# Altium integrated library BB Converter Analog to Digital.IntLib: 242 symbols (part 3 of 6)
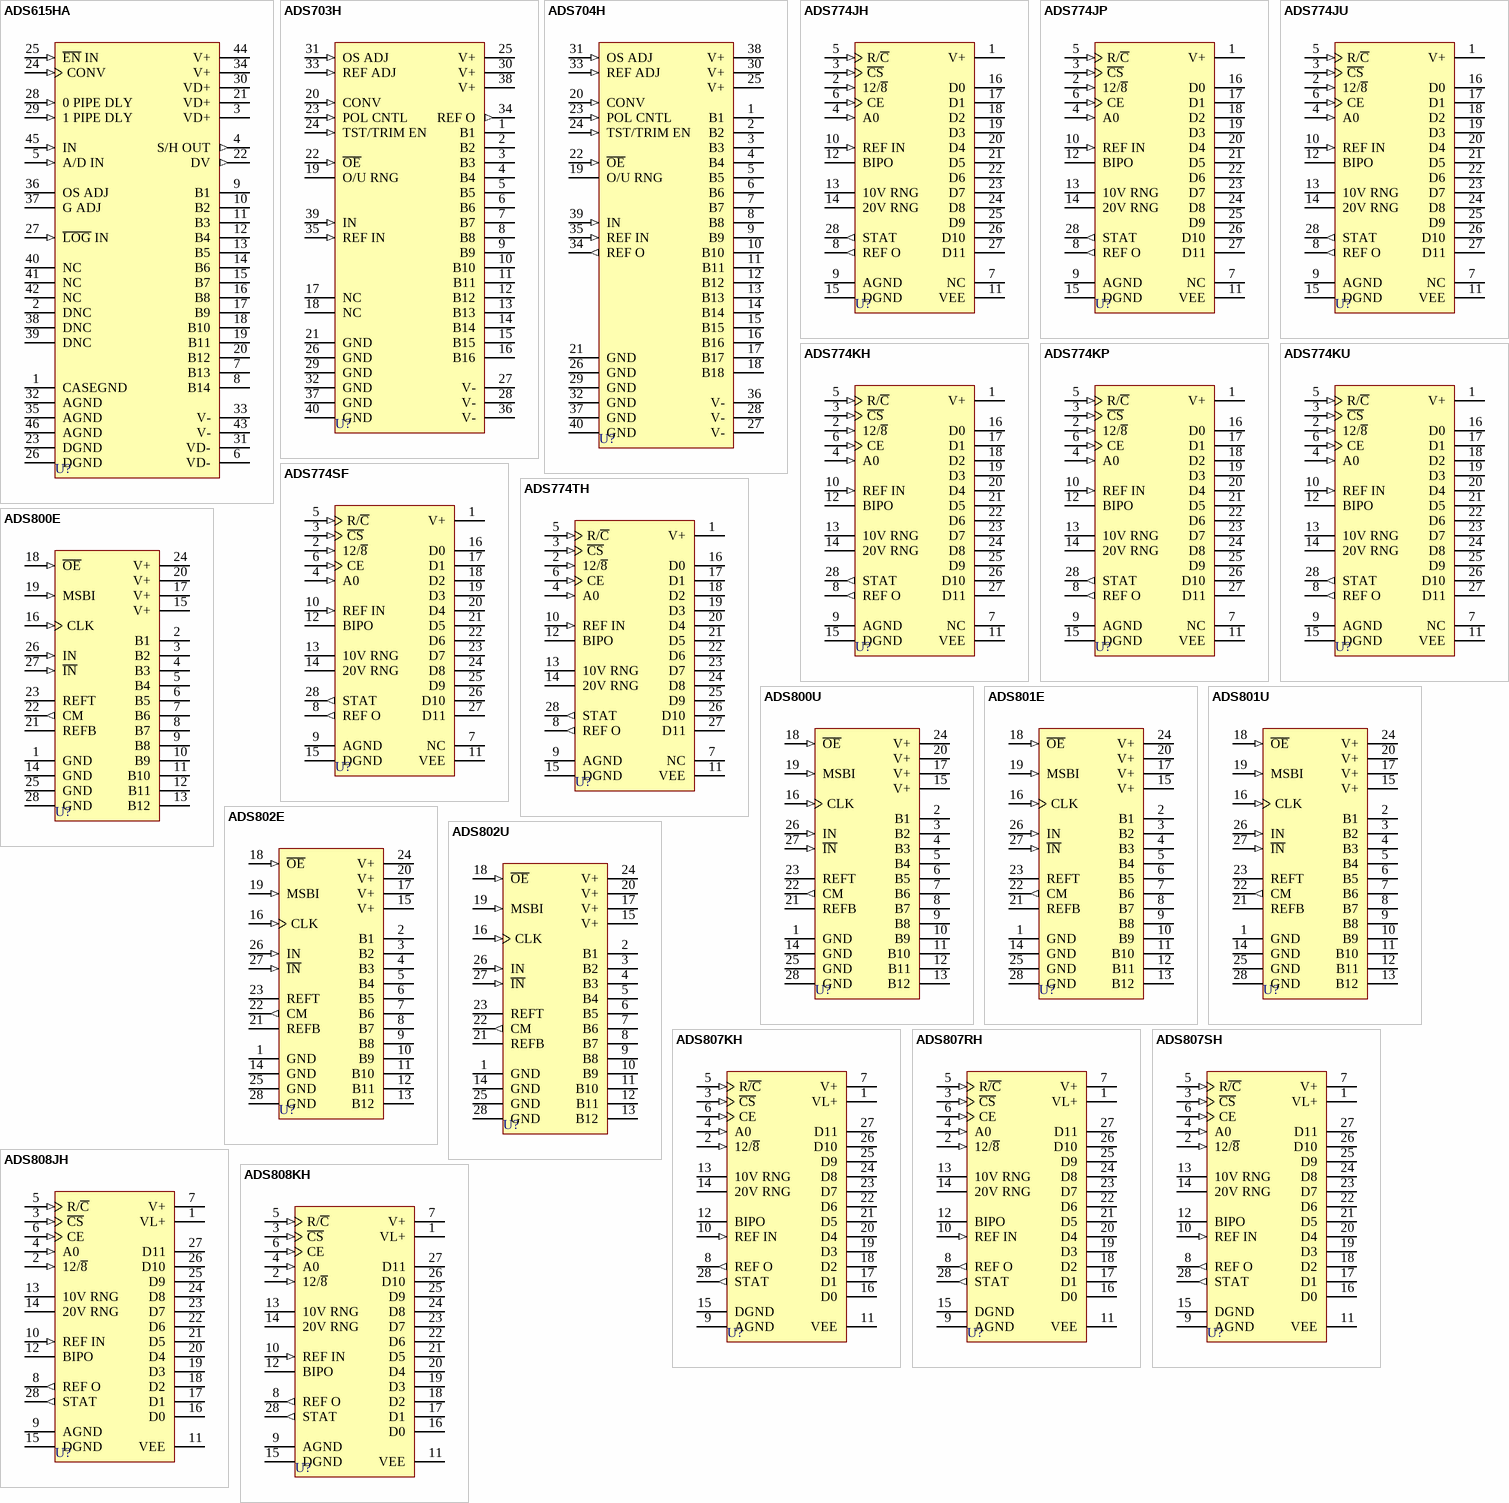
[diagram p11: symbols ADS615HA to ADS808KH]

## ADS774KH
designator U?
Microprocessor-Compatible Sampling CMOS Analog-to-Digital Converter; Note: Pin 7 is No internal Connection (NC) pin; Published: 8-Jun-2000; LatestRevisionDate: 06-Jun-2005; LatestRevisionNote: Stylized 3D Model Added.; DatasheetVersion: 1994; PackageVersion: 1994; PackageReference: 149; Publisher: Altium Limited; PackageDescription: DIP; 28 Leads; Row Spacing 15.24 mm; Pitch 2.54 mm; ComponentLink1Description: Manufacturer Link; ComponentLink1URL: http://www.ti.com/; ComponentLink2Description: Datasheet; ComponentLink2URL: http://www-s.ti.com/sc/ds/ads774.pdf
footprint 149 (DIP; 28 Leads; Row Spacing 15.24 mm; Pitch 2.54 mm)
3D model 149 (DIP; 28 Leads; Row Spacing 15.24 mm; Pitch 2.54 mm)
pins: 1 V+ (power), 2 12/~{8} (in), 3 ~{CS} (in), 4 A0 (in), 5 R/~{C} (in), 6 CE (in), 7 NC, 8 REF O (out), 9 AGND (power), 10 REF IN (in), 11 VEE (power), 12 BIPO, 13 10V RNG, 14 20V RNG, 15 DGND (power), 16 D0 (hiz), 17 D1 (hiz), 18 D2 (hiz), 19 D3 (hiz), 20 D4 (hiz), 21 D5 (hiz), 22 D6 (hiz), 23 D7 (hiz), 24 D8 (hiz), 25 D9 (hiz), 26 D10 (hiz), 27 D11 (hiz), 28 STAT (out)

## ADS774KP
designator U?
Microprocessor-Compatible Sampling CMOS Analog-to-Digital Converter; Note: Pin 7 is No internal Connection (NC) pin; Published: 8-Jun-2000; LatestRevisionDate: 06-Jun-2005; LatestRevisionNote: Stylized 3D Model Added.; DatasheetVersion: 1994; PackageVersion: revJ; PackageReference: 215J; Publisher: Altium Limited; PackageDescription: DIP; 28 Leads; Row Spacing 15.24 mm; Pitch 2.54 mm; Code_JEDEC: MS-011-AB; ComponentLink1Description: Manufacturer Link; ComponentLink1URL: http://www.ti.com/; ComponentLink2Description: Datasheet; ComponentLink2URL: http://www-s.ti.com/sc/ds/ads774.pdf
footprint 215J (DIP; 28 Leads; Row Spacing 15.24 mm; Pitch 2.54 mm)
3D model 215J (DIP; 28 Leads; Row Spacing 15.24 mm; Pitch 2.54 mm)
pins: 1 V+ (power), 2 12/~{8} (in), 3 ~{CS} (in), 4 A0 (in), 5 R/~{C} (in), 6 CE (in), 7 NC, 8 REF O (out), 9 AGND (power), 10 REF IN (in), 11 VEE (power), 12 BIPO, 13 10V RNG, 14 20V RNG, 15 DGND (power), 16 D0 (hiz), 17 D1 (hiz), 18 D2 (hiz), 19 D3 (hiz), 20 D4 (hiz), 21 D5 (hiz), 22 D6 (hiz), 23 D7 (hiz), 24 D8 (hiz), 25 D9 (hiz), 26 D10 (hiz), 27 D11 (hiz), 28 STAT (out)

## ADS774KU
designator U?
Microprocessor-Compatible Sampling CMOS Analog-to-Digital Converter; Note: Pin 7 is No internal Connection (NC) pin; Published: 8-Jun-2000; LatestRevisionDate: 13-Apr-2006; LatestRevisionNote: IPC-7351 Footprint Added.; DatasheetVersion: 1994; PackageReference: 217G; Publisher: Altium Limited; PackageDescription: 28-Pin Small Outline Integrated Circuit 1.27 mm Pitch; ComponentLink1Description: Manufacturer Link; ComponentLink1URL: http://www.ti.com/; ComponentLink2Description: Datasheet; ComponentLink2URL: http://www-s.ti.com/sc/ds/ads774.pdf
footprint 217G_N (SOIC, 28-Leads, Body 17.9x7.5mm, Pitch 1.27mm, IPC Medium Density)
footprint 217G_L (SOIC, 28-Leads, Body 17.9x7.5mm, Pitch 1.27mm, IPC High Density)
footprint 217G_M (SOIC, 28-Leads, Body 17.9x7.5mm, Pitch 1.27mm, IPC Low Density)
3D model 217G (28-Pin Small Outline Integrated Circuit 1.27 mm Pitch)
pins: 1 V+ (power), 2 12/~{8} (in), 3 ~{CS} (in), 4 A0 (in), 5 R/~{C} (in), 6 CE (in), 7 NC, 8 REF O (out), 9 AGND (power), 10 REF IN (in), 11 VEE (power), 12 BIPO, 13 10V RNG, 14 20V RNG, 15 DGND (power), 16 D0 (hiz), 17 D1 (hiz), 18 D2 (hiz), 19 D3 (hiz), 20 D4 (hiz), 21 D5 (hiz), 22 D6 (hiz), 23 D7 (hiz), 24 D8 (hiz), 25 D9 (hiz), 26 D10 (hiz), 27 D11 (hiz), 28 STAT (out)

## ADS774SF
designator U?
Microprocessor-Compatible Sampling CMOS Analog-to-Digital Converter; Note: Pin 7 is No internal Connection (NC) pin; Published: 8-Jun-2000; LatestRevisionDate: 06-Jun-2005; LatestRevisionNote: Stylized 3D Model Added.; DatasheetVersion: 1994; PackageVersion: 1994; PackageReference: 247; Publisher: Altium Limited; PackageDescription: DIP; 28 Leads; Row Spacing 7.62 mm; Pitch 2.54 mm; ComponentLink1Description: Manufacturer Link; ComponentLink1URL: http://www.ti.com/; ComponentLink2Description: Datasheet; ComponentLink2URL: http://www-s.ti.com/sc/ds/ads774.pdf
footprint 247 (DIP; 28 Leads; Row Spacing 7.62 mm; Pitch 2.54 mm)
3D model 246D (DIP; 28 Leads; Row Spacing 7.62 mm; Pitch 2.54 mm)
pins: 1 V+ (power), 2 12/~{8} (in), 3 ~{CS} (in), 4 A0 (in), 5 R/~{C} (in), 6 CE (in), 7 NC, 8 REF O (out), 9 AGND (power), 10 REF IN (in), 11 VEE (power), 12 BIPO, 13 10V RNG, 14 20V RNG, 15 DGND (power), 16 D0 (hiz), 17 D1 (hiz), 18 D2 (hiz), 19 D3 (hiz), 20 D4 (hiz), 21 D5 (hiz), 22 D6 (hiz), 23 D7 (hiz), 24 D8 (hiz), 25 D9 (hiz), 26 D10 (hiz), 27 D11 (hiz), 28 STAT (out)

## ADS774TH
designator U?
Microprocessor-Compatible Sampling CMOS Analog-to-Digital Converter; Note: Pin 7 is No internal Connection (NC) pin; Published: 8-Jun-2000; LatestRevisionDate: 06-Jun-2005; LatestRevisionNote: Stylized 3D Model Added.; DatasheetVersion: 1994; PackageVersion: 1994; PackageReference: 149; Publisher: Altium Limited; PackageDescription: DIP; 28 Leads; Row Spacing 15.24 mm; Pitch 2.54 mm; ComponentLink1Description: Manufacturer Link; ComponentLink1URL: http://www.ti.com/; ComponentLink2Description: Datasheet; ComponentLink2URL: http://www-s.ti.com/sc/ds/ads774.pdf
footprint 149 (DIP; 28 Leads; Row Spacing 15.24 mm; Pitch 2.54 mm)
3D model 149 (DIP; 28 Leads; Row Spacing 15.24 mm; Pitch 2.54 mm)
pins: 1 V+ (power), 2 12/~{8} (in), 3 ~{CS} (in), 4 A0 (in), 5 R/~{C} (in), 6 CE (in), 7 NC, 8 REF O (out), 9 AGND (power), 10 REF IN (in), 11 VEE (power), 12 BIPO, 13 10V RNG, 14 20V RNG, 15 DGND (power), 16 D0 (hiz), 17 D1 (hiz), 18 D2 (hiz), 19 D3 (hiz), 20 D4 (hiz), 21 D5 (hiz), 22 D6 (hiz), 23 D7 (hiz), 24 D8 (hiz), 25 D9 (hiz), 26 D10 (hiz), 27 D11 (hiz), 28 STAT (out)

## ADS800E
designator U?
12-Bit, 40MHz Sampling Analog-to-Digital Converter; Published: 8-Jun-2000; LatestRevisionDate: 06-Jun-2005; LatestRevisionNote: Stylized 3D Model Added.; DatasheetVersion: Nov-1996; PackageReference: 324C; Publisher: Altium Limited; PackageDescription: SSOP, Plastic; 28 Leads; Body Width 5.3 mm; Pitch 0.65 mm; Code_JEDEC: MO-150-AH; ComponentLink1Description: Manufacturer Link; ComponentLink1URL: http://www.ti.com/; ComponentLink2Description: Datasheet; ComponentLink2URL: http://www-s.ti.com/sc/ds/ADS800.pdf
footprint 324C (SSOP, Plastic; 28 Leads; Body Width 5.3 mm; Pitch 0.65 mm)
3D model SSOP28 (SSOP, Plastic; 28 Leads; Body Width 5.3 mm; Pitch 0.65 mm)
pins: 1 GND (power), 2 B1 (hiz), 3 B2 (hiz), 4 B3 (hiz), 5 B4 (hiz), 6 B5 (hiz), 7 B6 (hiz), 8 B7 (hiz), 9 B8 (hiz), 10 B9 (hiz), 11 B10 (hiz), 12 B11 (hiz), 13 B12 (hiz), 14 GND (power), 15 V+ (power), 16 CLK (in), 17 V+ (power), 18 ~{OE} (in), 19 MSBI (in), 20 V+ (power), 21 REFB, 22 CM (out), 23 REFT, 24 V+ (power), 25 GND (power), 26 IN (in), 27 ~{IN} (in), 28 GND (power)

## ADS800U
designator U?
12-Bit, 40MHz Sampling Analog-to-Digital Converter; Published: 8-Jun-2000; LatestRevisionDate: 13-Apr-2006; LatestRevisionNote: IPC-7351 Footprint Added.; DatasheetVersion: Nov-1996; PackageReference: 217G; Publisher: Altium Limited; PackageDescription: 28-Pin Small Outline Integrated Circuit 1.27 mm Pitch; ComponentLink1Description: Manufacturer Link; ComponentLink1URL: http://www.ti.com/; ComponentLink2Description: Datasheet; ComponentLink2URL: http://www-s.ti.com/sc/ds/ADS800.pdf
footprint 217G_N (SOIC, 28-Leads, Body 17.9x7.5mm, Pitch 1.27mm, IPC Medium Density)
footprint 217G_L (SOIC, 28-Leads, Body 17.9x7.5mm, Pitch 1.27mm, IPC High Density)
footprint 217G_M (SOIC, 28-Leads, Body 17.9x7.5mm, Pitch 1.27mm, IPC Low Density)
3D model 217G (28-Pin Small Outline Integrated Circuit 1.27 mm Pitch)
pins: 1 GND (power), 2 B1 (hiz), 3 B2 (hiz), 4 B3 (hiz), 5 B4 (hiz), 6 B5 (hiz), 7 B6 (hiz), 8 B7 (hiz), 9 B8 (hiz), 10 B9 (hiz), 11 B10 (hiz), 12 B11 (hiz), 13 B12 (hiz), 14 GND (power), 15 V+ (power), 16 CLK (in), 17 V+ (power), 18 ~{OE} (in), 19 MSBI (in), 20 V+ (power), 21 REFB, 22 CM (out), 23 REFT, 24 V+ (power), 25 GND (power), 26 IN (in), 27 ~{IN} (in), 28 GND (power)

## ADS801E
designator U?
12-Bit, 25MHz Sampling Analog-to-Digital Converter; Published: 8-Jun-2000; LatestRevisionDate: 06-Jun-2005; LatestRevisionNote: Stylized 3D Model Added.; DatasheetVersion: Sep-1996; PackageReference: 324C; Publisher: Altium Limited; PackageDescription: SSOP, Plastic; 28 Leads; Body Width 5.3 mm; Pitch 0.65 mm; Code_JEDEC: MO-150-AH; ComponentLink1Description: Manufacturer Link; ComponentLink1URL: http://www.ti.com/; ComponentLink2Description: Datasheet; ComponentLink2URL: http://www-s.ti.com/sc/ds/ADS801.pdf
footprint 324C (SSOP, Plastic; 28 Leads; Body Width 5.3 mm; Pitch 0.65 mm)
3D model SSOP28 (SSOP, Plastic; 28 Leads; Body Width 5.3 mm; Pitch 0.65 mm)
pins: 1 GND (power), 2 B1 (hiz), 3 B2 (hiz), 4 B3 (hiz), 5 B4 (hiz), 6 B5 (hiz), 7 B6 (hiz), 8 B7 (hiz), 9 B8 (hiz), 10 B9 (hiz), 11 B10 (hiz), 12 B11 (hiz), 13 B12 (hiz), 14 GND (power), 15 V+ (power), 16 CLK (in), 17 V+ (power), 18 ~{OE} (in), 19 MSBI (in), 20 V+ (power), 21 REFB, 22 CM (out), 23 REFT, 24 V+ (power), 25 GND (power), 26 IN (in), 27 ~{IN} (in), 28 GND (power)

## ADS801U
designator U?
12-Bit, 25MHz Sampling Analog-to-Digital Converter; Published: 8-Jun-2000; LatestRevisionDate: 13-Apr-2006; LatestRevisionNote: IPC-7351 Footprint Added.; DatasheetVersion: Sep-1996; PackageReference: 217G; Publisher: Altium Limited; PackageDescription: 28-Pin Small Outline Integrated Circuit 1.27 mm Pitch; ComponentLink1Description: Manufacturer Link; ComponentLink1URL: http://www.ti.com/; ComponentLink2Description: Datasheet; ComponentLink2URL: http://www-s.ti.com/sc/ds/ADS801.pdf
footprint 217G_N (SOIC, 28-Leads, Body 17.9x7.5mm, Pitch 1.27mm, IPC Medium Density)
footprint 217G_L (SOIC, 28-Leads, Body 17.9x7.5mm, Pitch 1.27mm, IPC High Density)
footprint 217G_M (SOIC, 28-Leads, Body 17.9x7.5mm, Pitch 1.27mm, IPC Low Density)
3D model 217G (28-Pin Small Outline Integrated Circuit 1.27 mm Pitch)
pins: 1 GND (power), 2 B1 (hiz), 3 B2 (hiz), 4 B3 (hiz), 5 B4 (hiz), 6 B5 (hiz), 7 B6 (hiz), 8 B7 (hiz), 9 B8 (hiz), 10 B9 (hiz), 11 B10 (hiz), 12 B11 (hiz), 13 B12 (hiz), 14 GND (power), 15 V+ (power), 16 CLK (in), 17 V+ (power), 18 ~{OE} (in), 19 MSBI (in), 20 V+ (power), 21 REFB, 22 CM (out), 23 REFT, 24 V+ (power), 25 GND (power), 26 IN (in), 27 ~{IN} (in), 28 GND (power)

## ADS802E
designator U?
12-Bit, 10MHz Sampling Analog-to-Digital Converter; Published: 8-Jun-2000; LatestRevisionDate: 06-Jun-2005; LatestRevisionNote: Stylized 3D Model Added.; DatasheetVersion: Oct-1996; PackageReference: 324C; Publisher: Altium Limited; PackageDescription: SSOP, Plastic; 28 Leads; Body Width 5.3 mm; Pitch 0.65 mm; Code_JEDEC: MO-150-AH; ComponentLink1Description: Manufacturer Link; ComponentLink1URL: http://www.ti.com/; ComponentLink2Description: Datasheet; ComponentLink2URL: http://www-s.ti.com/sc/ds/ADS802.pdf
footprint 324C (SSOP, Plastic; 28 Leads; Body Width 5.3 mm; Pitch 0.65 mm)
3D model SSOP28 (SSOP, Plastic; 28 Leads; Body Width 5.3 mm; Pitch 0.65 mm)
pins: 1 GND (power), 2 B1 (hiz), 3 B2 (hiz), 4 B3 (hiz), 5 B4 (hiz), 6 B5 (hiz), 7 B6 (hiz), 8 B7 (hiz), 9 B8 (hiz), 10 B9 (hiz), 11 B10 (hiz), 12 B11 (hiz), 13 B12 (hiz), 14 GND (power), 15 V+ (power), 16 CLK (in), 17 V+ (power), 18 ~{OE} (in), 19 MSBI (in), 20 V+ (power), 21 REFB, 22 CM (out), 23 REFT, 24 V+ (power), 25 GND (power), 26 IN (in), 27 ~{IN} (in), 28 GND (power)

## ADS802U
designator U?
12-Bit, 10MHz Sampling Analog-to-Digital Converter; Published: 8-Jun-2000; LatestRevisionDate: 13-Apr-2006; LatestRevisionNote: IPC-7351 Footprint Added.; DatasheetVersion: Oct-1996; PackageReference: 217G; Publisher: Altium Limited; PackageDescription: 28-Pin Small Outline Integrated Circuit 1.27 mm Pitch; ComponentLink1Description: Manufacturer Link; ComponentLink1URL: http://www.ti.com/; ComponentLink2Description: Datasheet; ComponentLink2URL: http://www-s.ti.com/sc/ds/ADS802.pdf
footprint 217G_N (SOIC, 28-Leads, Body 17.9x7.5mm, Pitch 1.27mm, IPC Medium Density)
footprint 217G_L (SOIC, 28-Leads, Body 17.9x7.5mm, Pitch 1.27mm, IPC High Density)
footprint 217G_M (SOIC, 28-Leads, Body 17.9x7.5mm, Pitch 1.27mm, IPC Low Density)
3D model 217G (28-Pin Small Outline Integrated Circuit 1.27 mm Pitch)
pins: 1 GND (power), 2 B1 (hiz), 3 B2 (hiz), 4 B3 (hiz), 5 B4 (hiz), 6 B5 (hiz), 7 B6 (hiz), 8 B7 (hiz), 9 B8 (hiz), 10 B9 (hiz), 11 B10 (hiz), 12 B11 (hiz), 13 B12 (hiz), 14 GND (power), 15 V+ (power), 16 CLK (in), 17 V+ (power), 18 ~{OE} (in), 19 MSBI (in), 20 V+ (power), 21 REFB, 22 CM (out), 23 REFT, 24 V+ (power), 25 GND (power), 26 IN (in), 27 ~{IN} (in), 28 GND (power)

## ADS807KH
designator U?
12-Bit Resolution Sampling A/D Converter; Published: 8-Jun-2000; LatestRevisionDate: 06-Jun-2005; LatestRevisionNote: Stylized 3D Model Added.; DatasheetVersion: 1989; PackageVersion: 1994; PackageReference: 237; Publisher: Altium Limited; PackageDescription: DIP; 28 Leads; Row Spacing 15.24 mm; Pitch 2.54 mm; ComponentLink1Description: Manufacturer Link; ComponentLink1URL: http://www.ti.com/; ComponentLink2Description: Datasheet; ComponentLink2URL: http://www-s.ti.com/sc/ds/ads807.pdf
footprint 237 (DIP; 28 Leads; Row Spacing 15.24 mm; Pitch 2.54 mm)
3D model 144 (DIP; 28 Leads; Row Spacing 15.24 mm; Pitch 2.54 mm)
pins: 1 VL+ (power), 2 12/~{8} (in), 3 ~{CS} (in), 4 A0 (in), 5 R~{/C} (in), 6 CE (in), 7 V+ (power), 8 REF O (out), 9 AGND (power), 10 REF IN (in), 11 VEE (power), 12 BIPO, 13 10V RNG, 14 20V RNG, 15 DGND (power), 16 D0 (hiz), 17 D1 (hiz), 18 D2 (hiz), 19 D3 (hiz), 20 D4 (hiz), 21 D5 (hiz), 22 D6 (hiz), 23 D7 (hiz), 24 D8 (hiz), 25 D9 (hiz), 26 D10 (hiz), 27 D11 (hiz), 28 STAT (out)

## ADS807RH
designator U?
12-Bit Resolution Sampling A/D Converter; Published: 8-Jun-2000; LatestRevisionDate: 06-Jun-2005; LatestRevisionNote: Stylized 3D Model Added.; DatasheetVersion: 1989; PackageVersion: 1994; PackageReference: 237; Publisher: Altium Limited; PackageDescription: DIP; 28 Leads; Row Spacing 15.24 mm; Pitch 2.54 mm; ComponentLink1Description: Manufacturer Link; ComponentLink1URL: http://www.ti.com/; ComponentLink2Description: Datasheet; ComponentLink2URL: http://www-s.ti.com/sc/ds/ads807.pdf
footprint 237 (DIP; 28 Leads; Row Spacing 15.24 mm; Pitch 2.54 mm)
3D model 144 (DIP; 28 Leads; Row Spacing 15.24 mm; Pitch 2.54 mm)
pins: 1 VL+ (power), 2 12/~{8} (in), 3 ~{CS} (in), 4 A0 (in), 5 R~{/C} (in), 6 CE (in), 7 V+ (power), 8 REF O (out), 9 AGND (power), 10 REF IN (in), 11 VEE (power), 12 BIPO, 13 10V RNG, 14 20V RNG, 15 DGND (power), 16 D0 (hiz), 17 D1 (hiz), 18 D2 (hiz), 19 D3 (hiz), 20 D4 (hiz), 21 D5 (hiz), 22 D6 (hiz), 23 D7 (hiz), 24 D8 (hiz), 25 D9 (hiz), 26 D10 (hiz), 27 D11 (hiz), 28 STAT (out)

## ADS807SH
designator U?
12-Bit Resolution Sampling A/D Converter; Published: 8-Jun-2000; LatestRevisionDate: 06-Jun-2005; LatestRevisionNote: Stylized 3D Model Added.; DatasheetVersion: 1989; PackageVersion: 1994; PackageReference: 237; Publisher: Altium Limited; PackageDescription: DIP; 28 Leads; Row Spacing 15.24 mm; Pitch 2.54 mm; ComponentLink1Description: Manufacturer Link; ComponentLink1URL: http://www.ti.com/; ComponentLink2Description: Datasheet; ComponentLink2URL: http://www-s.ti.com/sc/ds/ads807.pdf
footprint 237 (DIP; 28 Leads; Row Spacing 15.24 mm; Pitch 2.54 mm)
3D model 144 (DIP; 28 Leads; Row Spacing 15.24 mm; Pitch 2.54 mm)
pins: 1 VL+ (power), 2 12/~{8} (in), 3 ~{CS} (in), 4 A0 (in), 5 R~{/C} (in), 6 CE (in), 7 V+ (power), 8 REF O (out), 9 AGND (power), 10 REF IN (in), 11 VEE (power), 12 BIPO, 13 10V RNG, 14 20V RNG, 15 DGND (power), 16 D0 (hiz), 17 D1 (hiz), 18 D2 (hiz), 19 D3 (hiz), 20 D4 (hiz), 21 D5 (hiz), 22 D6 (hiz), 23 D7 (hiz), 24 D8 (hiz), 25 D9 (hiz), 26 D10 (hiz), 27 D11 (hiz), 28 STAT (out)

## ADS808JH
designator U?
12-Bit Resolution Sampling A/D Converter; Published: 8-Jun-2000; LatestRevisionDate: 06-Jun-2005; LatestRevisionNote: Stylized 3D Model Added.; DatasheetVersion: 1989; PackageVersion: 1994; PackageReference: 237; Publisher: Altium Limited; PackageDescription: DIP; 28 Leads; Row Spacing 15.24 mm; Pitch 2.54 mm; ComponentLink1Description: Manufacturer Link; ComponentLink1URL: http://www.ti.com/; ComponentLink2Description: Datasheet; ComponentLink2URL: http://www-s.ti.com/sc/ds/ads808.pdf
footprint 237 (DIP; 28 Leads; Row Spacing 15.24 mm; Pitch 2.54 mm)
3D model 144 (DIP; 28 Leads; Row Spacing 15.24 mm; Pitch 2.54 mm)
pins: 1 VL+ (power), 2 12/~{8} (in), 3 ~{CS} (in), 4 A0 (in), 5 R/~{C} (in), 6 CE (in), 7 V+ (power), 8 REF O (out), 9 AGND (power), 10 REF IN (in), 11 VEE (power), 12 BIPO, 13 10V RNG, 14 20V RNG, 15 DGND (power), 16 D0 (hiz), 17 D1 (hiz), 18 D2 (hiz), 19 D3 (hiz), 20 D4 (hiz), 21 D5 (hiz), 22 D6 (hiz), 23 D7 (hiz), 24 D8 (hiz), 25 D9 (hiz), 26 D10 (hiz), 27 D11 (hiz), 28 STAT (out)

## ADS808KH
designator U?
12-Bit Resolution Sampling A/D Converter; Published: 8-Jun-2000; LatestRevisionDate: 06-Jun-2005; LatestRevisionNote: Stylized 3D Model Added.; DatasheetVersion: 1989; PackageVersion: 1994; PackageReference: 237; Publisher: Altium Limited; PackageDescription: DIP; 28 Leads; Row Spacing 15.24 mm; Pitch 2.54 mm; ComponentLink1Description: Manufacturer Link; ComponentLink1URL: http://www.ti.com/; ComponentLink2Description: Datasheet; ComponentLink2URL: http://www-s.ti.com/sc/ds/ads808.pdf
footprint 237 (DIP; 28 Leads; Row Spacing 15.24 mm; Pitch 2.54 mm)
3D model 144 (DIP; 28 Leads; Row Spacing 15.24 mm; Pitch 2.54 mm)
pins: 1 VL+ (power), 2 12/~{8} (in), 3 ~{CS} (in), 4 A0 (in), 5 R/~{C} (in), 6 CE (in), 7 V+ (power), 8 REF O (out), 9 AGND (power), 10 REF IN (in), 11 VEE (power), 12 BIPO, 13 10V RNG, 14 20V RNG, 15 DGND (power), 16 D0 (hiz), 17 D1 (hiz), 18 D2 (hiz), 19 D3 (hiz), 20 D4 (hiz), 21 D5 (hiz), 22 D6 (hiz), 23 D7 (hiz), 24 D8 (hiz), 25 D9 (hiz), 26 D10 (hiz), 27 D11 (hiz), 28 STAT (out)

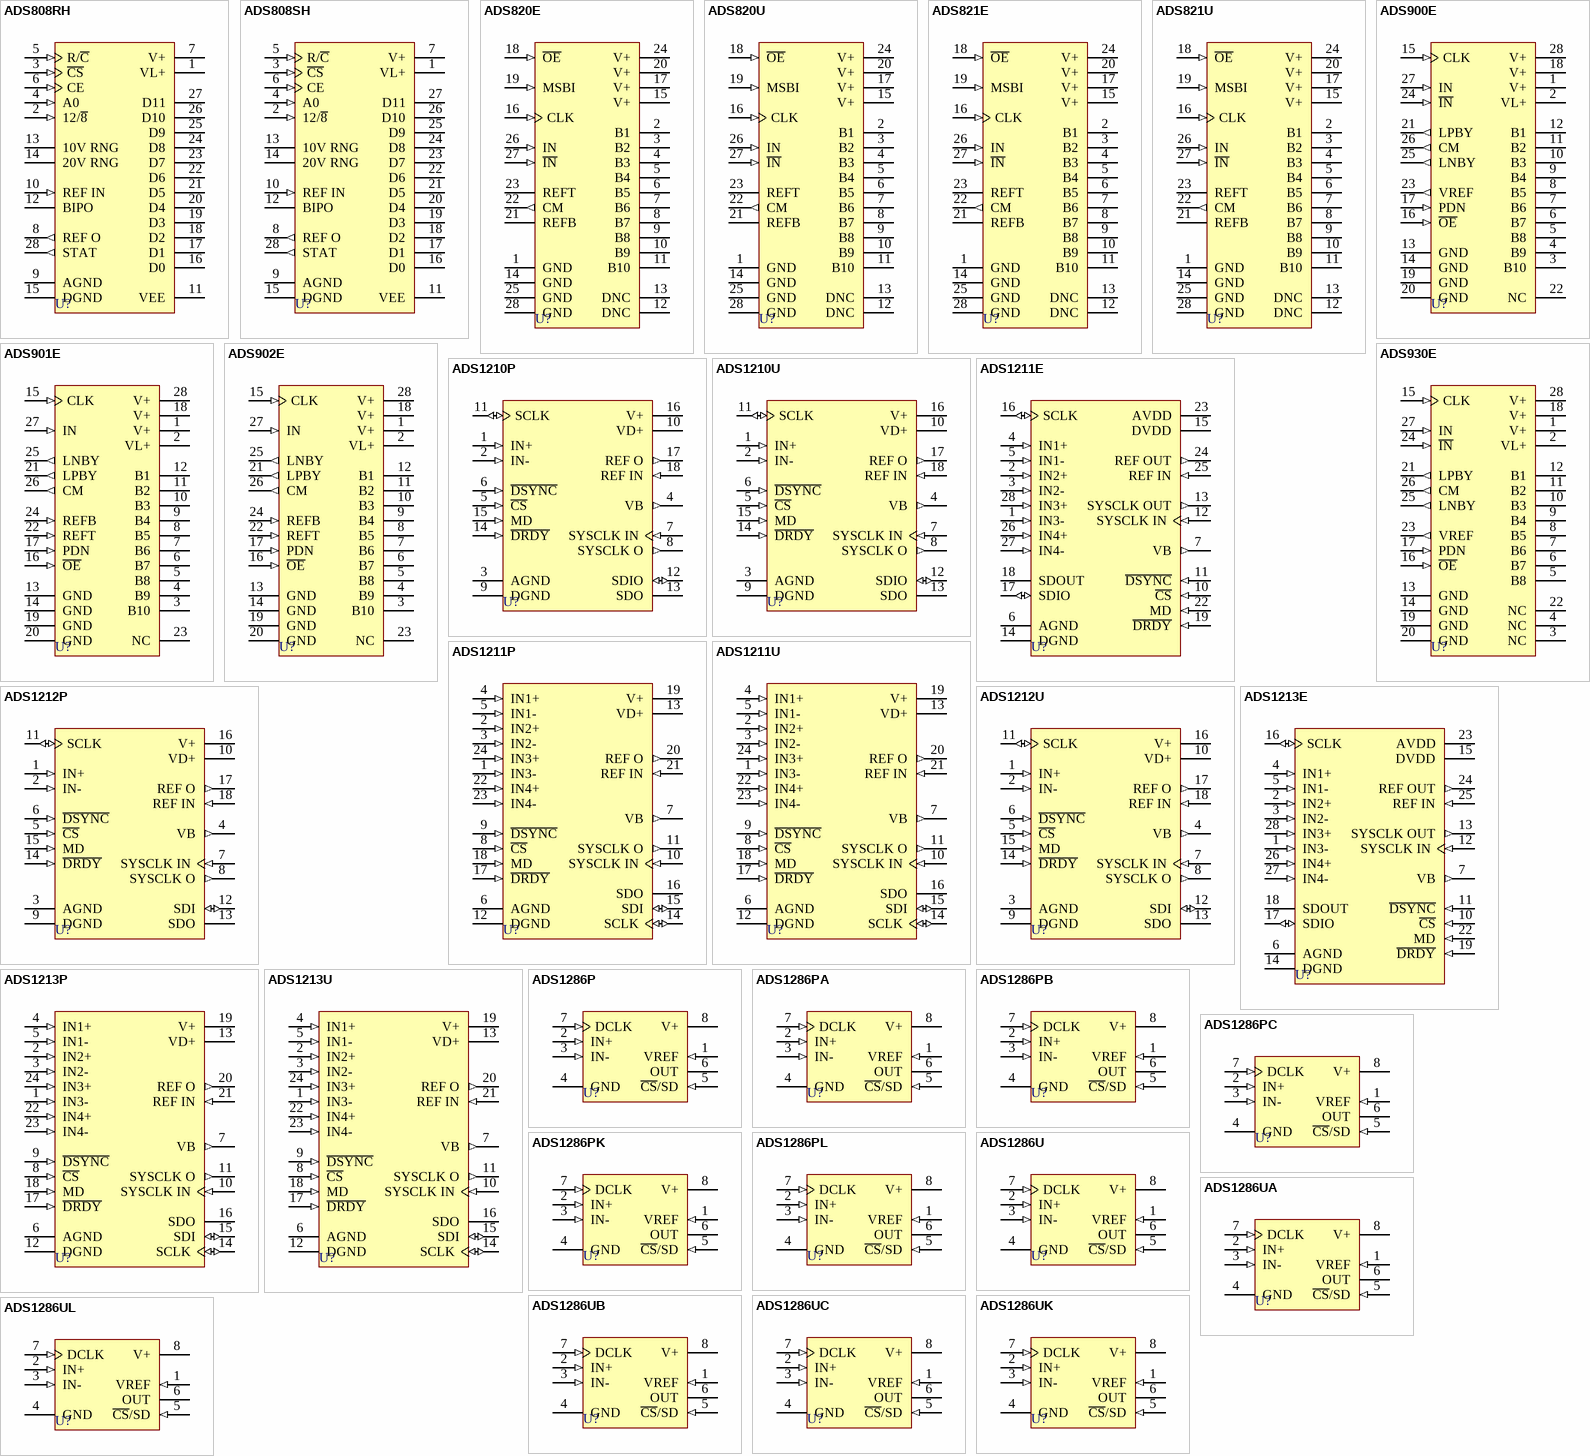
[diagram p5: symbols ADS808RH to ADS1286UL]

## ADS808RH
designator U?
12-Bit Resolution Sampling A/D Converter; Published: 8-Jun-2000; LatestRevisionDate: 06-Jun-2005; LatestRevisionNote: Stylized 3D Model Added.; DatasheetVersion: 1989; PackageVersion: 1994; PackageReference: 237; Publisher: Altium Limited; PackageDescription: DIP; 28 Leads; Row Spacing 15.24 mm; Pitch 2.54 mm; ComponentLink1Description: Manufacturer Link; ComponentLink1URL: http://www.ti.com/; ComponentLink2Description: Datasheet; ComponentLink2URL: http://www-s.ti.com/sc/ds/ads808.pdf
footprint 237 (DIP; 28 Leads; Row Spacing 15.24 mm; Pitch 2.54 mm)
3D model 144 (DIP; 28 Leads; Row Spacing 15.24 mm; Pitch 2.54 mm)
pins: 1 VL+ (power), 2 12/~{8} (in), 3 ~{CS} (in), 4 A0 (in), 5 R/~{C} (in), 6 CE (in), 7 V+ (power), 8 REF O (out), 9 AGND (power), 10 REF IN (in), 11 VEE (power), 12 BIPO, 13 10V RNG, 14 20V RNG, 15 DGND (power), 16 D0 (hiz), 17 D1 (hiz), 18 D2 (hiz), 19 D3 (hiz), 20 D4 (hiz), 21 D5 (hiz), 22 D6 (hiz), 23 D7 (hiz), 24 D8 (hiz), 25 D9 (hiz), 26 D10 (hiz), 27 D11 (hiz), 28 STAT (out)

## ADS808SH
designator U?
12-Bit Resolution Sampling A/D Converter; Published: 8-Jun-2000; LatestRevisionDate: 06-Jun-2005; LatestRevisionNote: Stylized 3D Model Added.; DatasheetVersion: 1989; PackageVersion: 1994; PackageReference: 237; Publisher: Altium Limited; PackageDescription: DIP; 28 Leads; Row Spacing 15.24 mm; Pitch 2.54 mm; ComponentLink1Description: Manufacturer Link; ComponentLink1URL: http://www.ti.com/; ComponentLink2Description: Datasheet; ComponentLink2URL: http://www-s.ti.com/sc/ds/ads808.pdf
footprint 237 (DIP; 28 Leads; Row Spacing 15.24 mm; Pitch 2.54 mm)
3D model 144 (DIP; 28 Leads; Row Spacing 15.24 mm; Pitch 2.54 mm)
pins: 1 VL+ (power), 2 12/~{8} (in), 3 ~{CS} (in), 4 A0 (in), 5 R/~{C} (in), 6 CE (in), 7 V+ (power), 8 REF O (out), 9 AGND (power), 10 REF IN (in), 11 VEE (power), 12 BIPO, 13 10V RNG, 14 20V RNG, 15 DGND (power), 16 D0 (hiz), 17 D1 (hiz), 18 D2 (hiz), 19 D3 (hiz), 20 D4 (hiz), 21 D5 (hiz), 22 D6 (hiz), 23 D7 (hiz), 24 D8 (hiz), 25 D9 (hiz), 26 D10 (hiz), 27 D11 (hiz), 28 STAT (out)

## ADS820E
designator U?
10-Bit, 20MHz Sampling Analog -to- Digital Converter; Note: Do Not Connect (DNC) pins 12 and 13.; Published: 8-Jun-2000; LatestRevisionDate: 06-Jun-2005; LatestRevisionNote: Stylized 3D Model Added.; DatasheetVersion: Oct-1996; PackageReference: 324C; Publisher: Altium Limited; PackageDescription: SSOP, Plastic; 28 Leads; Body Width 5.3 mm; Pitch 0.65 mm; Code_JEDEC: MO-150-AH; ComponentLink1Description: Manufacturer Link; ComponentLink1URL: http://www.ti.com/; ComponentLink2Description: Datasheet; ComponentLink2URL: http://www-s.ti.com/sc/ds/ADS820.pdf
footprint 324C (SSOP, Plastic; 28 Leads; Body Width 5.3 mm; Pitch 0.65 mm)
3D model SSOP28 (SSOP, Plastic; 28 Leads; Body Width 5.3 mm; Pitch 0.65 mm)
pins: 1 GND (power), 2 B1 (hiz), 3 B2 (hiz), 4 B3 (hiz), 5 B4 (hiz), 6 B5 (hiz), 7 B6 (hiz), 8 B7 (hiz), 9 B8 (hiz), 10 B9 (hiz), 11 B10 (hiz), 12 DNC, 13 DNC, 14 GND (power), 15 V+ (power), 16 CLK (in), 17 V+ (power), 18 ~{OE} (in), 19 MSBI (in), 20 V+ (power), 21 REFB, 22 CM (out), 23 REFT, 24 V+ (power), 25 GND (power), 26 IN (in), 27 ~{IN} (in), 28 GND (power)

## ADS820U
designator U?
10-Bit, 20MHz Sampling Analog -to- Digital Converter; Note: Do Not Connect (DNC) pins 12 and 13.; Published: 8-Jun-2000; LatestRevisionDate: 13-Apr-2006; LatestRevisionNote: IPC-7351 Footprint Added.; DatasheetVersion: Oct-1996; PackageReference: 217G; Publisher: Altium Limited; PackageDescription: 28-Pin Small Outline Integrated Circuit 1.27 mm Pitch; ComponentLink1Description: Manufacturer Link; ComponentLink1URL: http://www.ti.com/; ComponentLink2Description: Datasheet; ComponentLink2URL: http://www-s.ti.com/sc/ds/ADS820.pdf
footprint 217G_N (SOIC, 28-Leads, Body 17.9x7.5mm, Pitch 1.27mm, IPC Medium Density)
footprint 217G_L (SOIC, 28-Leads, Body 17.9x7.5mm, Pitch 1.27mm, IPC High Density)
footprint 217G_M (SOIC, 28-Leads, Body 17.9x7.5mm, Pitch 1.27mm, IPC Low Density)
3D model 217G (28-Pin Small Outline Integrated Circuit 1.27 mm Pitch)
pins: 1 GND (power), 2 B1 (hiz), 3 B2 (hiz), 4 B3 (hiz), 5 B4 (hiz), 6 B5 (hiz), 7 B6 (hiz), 8 B7 (hiz), 9 B8 (hiz), 10 B9 (hiz), 11 B10 (hiz), 12 DNC, 13 DNC, 14 GND (power), 15 V+ (power), 16 CLK (in), 17 V+ (power), 18 ~{OE} (in), 19 MSBI (in), 20 V+ (power), 21 REFB, 22 CM (out), 23 REFT, 24 V+ (power), 25 GND (power), 26 IN (in), 27 ~{IN} (in), 28 GND (power)

## ADS821E
designator U?
10-Bit, 40MHz Sampling Analog -to- Digital Converter; Note: Do Not Connect (DNC) pins 12 and 13.; Published: 8-Jun-2000; LatestRevisionDate: 06-Jun-2005; LatestRevisionNote: Stylized 3D Model Added.; DatasheetVersion: Nov-1996; PackageReference: 324C; Publisher: Altium Limited; PackageDescription: SSOP, Plastic; 28 Leads; Body Width 5.3 mm; Pitch 0.65 mm; Code_JEDEC: MO-150-AH; ComponentLink1Description: Manufacturer Link; ComponentLink1URL: http://www.ti.com/; ComponentLink2Description: Datasheet; ComponentLink2URL: http://www-s.ti.com/sc/ds/ADS821.pdf
footprint 324C (SSOP, Plastic; 28 Leads; Body Width 5.3 mm; Pitch 0.65 mm)
3D model SSOP28 (SSOP, Plastic; 28 Leads; Body Width 5.3 mm; Pitch 0.65 mm)
pins: 1 GND (power), 2 B1 (hiz), 3 B2 (hiz), 4 B3 (hiz), 5 B4 (hiz), 6 B5 (hiz), 7 B6 (hiz), 8 B7 (hiz), 9 B8 (hiz), 10 B9 (hiz), 11 B10 (hiz), 12 DNC, 13 DNC, 14 GND (power), 15 V+ (power), 16 CLK (in), 17 V+ (power), 18 ~{OE} (in), 19 MSBI (in), 20 V+ (power), 21 REFB, 22 CM (out), 23 REFT, 24 V+ (power), 25 GND (power), 26 IN (in), 27 ~{IN} (in), 28 GND (power)

## ADS821U
designator U?
10-Bit, 40MHz Sampling Analog -to- Digital Converter; Note: Do Not Connect (DNC) pins 12 and 13.; Published: 8-Jun-2000; LatestRevisionDate: 13-Apr-2006; LatestRevisionNote: IPC-7351 Footprint Added.; DatasheetVersion: Nov-1996; PackageReference: 217G; Publisher: Altium Limited; PackageDescription: 28-Pin Small Outline Integrated Circuit 1.27 mm Pitch; ComponentLink1Description: Manufacturer Link; ComponentLink1URL: http://www.ti.com/; ComponentLink2Description: Datasheet; ComponentLink2URL: http://www-s.ti.com/sc/ds/ADS821.pdf
footprint 217G_N (SOIC, 28-Leads, Body 17.9x7.5mm, Pitch 1.27mm, IPC Medium Density)
footprint 217G_L (SOIC, 28-Leads, Body 17.9x7.5mm, Pitch 1.27mm, IPC High Density)
footprint 217G_M (SOIC, 28-Leads, Body 17.9x7.5mm, Pitch 1.27mm, IPC Low Density)
3D model 217G (28-Pin Small Outline Integrated Circuit 1.27 mm Pitch)
pins: 1 GND (power), 2 B1 (hiz), 3 B2 (hiz), 4 B3 (hiz), 5 B4 (hiz), 6 B5 (hiz), 7 B6 (hiz), 8 B7 (hiz), 9 B8 (hiz), 10 B9 (hiz), 11 B10 (hiz), 12 DNC, 13 DNC, 14 GND (power), 15 V+ (power), 16 CLK (in), 17 V+ (power), 18 ~{OE} (in), 19 MSBI (in), 20 V+ (power), 21 REFB, 22 CM (out), 23 REFT, 24 V+ (power), 25 GND (power), 26 IN (in), 27 ~{IN} (in), 28 GND (power)

## ADS900E
designator U?
10-Bit, 20MHz, +3V Supply Analog-to-Digital Converter; Note: Pin 22 is No internal Connection (NC) pin.; Published: 8-Jun-2000; LatestRevisionDate: 06-Jun-2005; LatestRevisionNote: Stylized 3D Model Added.; DatasheetVersion: Jan-1997; PackageReference: 324C; Publisher: Altium Limited; PackageDescription: SSOP, Plastic; 28 Leads; Body Width 5.3 mm; Pitch 0.65 mm; Code_JEDEC: MO-150-AH; ComponentLink1Description: Manufacturer Link; ComponentLink1URL: http://www.ti.com/; ComponentLink2Description: Datasheet; ComponentLink2URL: http://www-s.ti.com/sc/ds/ADS900.pdf
footprint 324C (SSOP, Plastic; 28 Leads; Body Width 5.3 mm; Pitch 0.65 mm)
3D model SSOP28 (SSOP, Plastic; 28 Leads; Body Width 5.3 mm; Pitch 0.65 mm)
pins: 1 V+ (power), 2 VL+ (power), 3 B10 (hiz), 4 B9 (hiz), 5 B8 (hiz), 6 B7 (hiz), 7 B6 (hiz), 8 B5 (hiz), 9 B4 (hiz), 10 B3 (hiz), 11 B2 (hiz), 12 B1 (hiz), 13 GND (power), 14 GND (power), 15 CLK (in), 16 ~{OE} (in), 17 PDN (in), 18 V+ (power), 19 GND (power), 20 GND (power), 21 LPBY (out), 22 NC, 23 VREF (out), 24 ~{IN} (in), 25 LNBY (out), 26 CM (out), 27 IN (in), 28 V+ (power)

## ADS901E
designator U?
10-Bit, 20MHz, +3V Supply Analog-to-Digital Converter; Note: Pin 23 is No internal Connection (NC) pin.; Published: 8-Jun-2000; LatestRevisionDate: 06-Jun-2005; LatestRevisionNote: Stylized 3D Model Added.; DatasheetVersion: Jun-1999; PackageReference: 324C; Publisher: Altium Limited; PackageDescription: SSOP, Plastic; 28 Leads; Body Width 5.3 mm; Pitch 0.65 mm; Code_JEDEC: MO-150-AH; ComponentLink1Description: Manufacturer Link; ComponentLink1URL: http://www.ti.com/; ComponentLink2Description: Datasheet; ComponentLink2URL: http://www-s.ti.com/sc/ds/ADS901.pdf
footprint 324C (SSOP, Plastic; 28 Leads; Body Width 5.3 mm; Pitch 0.65 mm)
3D model SSOP28 (SSOP, Plastic; 28 Leads; Body Width 5.3 mm; Pitch 0.65 mm)
pins: 1 V+ (power), 2 VL+ (power), 3 B10 (hiz), 4 B9 (hiz), 5 B8 (hiz), 6 B7 (hiz), 7 B6 (hiz), 8 B5 (hiz), 9 B4 (hiz), 10 B3 (hiz), 11 B2 (hiz), 12 B1 (hiz), 13 GND (power), 14 GND (power), 15 CLK (in), 16 ~{OE} (in), 17 PDN (in), 18 V+ (power), 19 GND (power), 20 GND (power), 21 LPBY (out), 22 REFT (in), 23 NC, 24 REFB (in), 25 LNBY (out), 26 CM (out), 27 IN (in), 28 V+ (power)

## ADS902E
designator U?
10-Bit, 30MHz Sampling Analog-to-Digital Converter; Note: Pin 23 is No internal Connection (NC) pin.; Published: 8-Jun-2000; LatestRevisionDate: 06-Jun-2005; LatestRevisionNote: Stylized 3D Model Added.; DatasheetVersion: Feb-1997; PackageReference: 324C; Publisher: Altium Limited; PackageDescription: SSOP, Plastic; 28 Leads; Body Width 5.3 mm; Pitch 0.65 mm; Code_JEDEC: MO-150-AH; ComponentLink1Description: Manufacturer Link; ComponentLink1URL: http://www.ti.com/; ComponentLink2Description: Datasheet; ComponentLink2URL: http://www-s.ti.com/sc/ds/ADS902.pdf
footprint 324C (SSOP, Plastic; 28 Leads; Body Width 5.3 mm; Pitch 0.65 mm)
3D model SSOP28 (SSOP, Plastic; 28 Leads; Body Width 5.3 mm; Pitch 0.65 mm)
pins: 1 V+ (power), 2 VL+ (power), 3 B10 (hiz), 4 B9 (hiz), 5 B8 (hiz), 6 B7 (hiz), 7 B6 (hiz), 8 B5 (hiz), 9 B4 (hiz), 10 B3 (hiz), 11 B2 (hiz), 12 B1 (hiz), 13 GND (power), 14 GND (power), 15 CLK (in), 16 ~{OE} (in), 17 PDN (in), 18 V+ (power), 19 GND (power), 20 GND (power), 21 LPBY (out), 22 REFT (in), 23 NC, 24 REFB (in), 25 LNBY (out), 26 CM (out), 27 IN (in), 28 V+ (power)

## ADS930E
designator U?
8-Bit, 30MHz Sampling Analog-to-Digital Converter; Note: Pins 3,4 and 22 are No internal Connection (NC) pins.; Published: 8-Jun-2000; LatestRevisionDate: 06-Jun-2005; LatestRevisionNote: Stylized 3D Model Added.; DatasheetVersion: Mar-1997; PackageReference: 324C; Publisher: Altium Limited; PackageDescription: SSOP, Plastic; 28 Leads; Body Width 5.3 mm; Pitch 0.65 mm; Code_JEDEC: MO-150-AH; ComponentLink1Description: Manufacturer Link; ComponentLink1URL: http://www.ti.com/; ComponentLink2Description: Datasheet; ComponentLink2URL: http://www-s.ti.com/sc/ds/ADS930.pdf
footprint 324C (SSOP, Plastic; 28 Leads; Body Width 5.3 mm; Pitch 0.65 mm)
3D model SSOP28 (SSOP, Plastic; 28 Leads; Body Width 5.3 mm; Pitch 0.65 mm)
pins: 1 V+ (power), 2 VL+ (power), 3 NC, 4 NC, 5 B8 (hiz), 6 B7 (hiz), 7 B6 (hiz), 8 B5 (hiz), 9 B4 (hiz), 10 B3 (hiz), 11 B2 (hiz), 12 B1 (hiz), 13 GND (power), 14 GND (power), 15 CLK (in), 16 ~{OE} (in), 17 PDN (in), 18 V+ (power), 19 GND (power), 20 GND (power), 21 LPBY (out), 22 NC, 23 VREF (out), 24 ~{IN} (in), 25 LNBY (out), 26 CM (out), 27 IN (in), 28 V+ (power)

## ADS1210P
designator U?
24-Bit Analog-to-Digital Converter; Published: 8-Jun-2000; LatestRevisionDate: 06-Jun-2005; LatestRevisionNote: Stylized 3D Model Added.; DatasheetVersion: Apr-1997; PackageVersion: revD; PackageReference: 218D; Publisher: Altium Limited; PackageDescription: DIP; 18 Leads; Row Spacing 7.62 mm; Pitch 2.54 mm; ComponentLink1Description: Manufacturer Link; ComponentLink1URL: http://www.ti.com/; ComponentLink2Description: Datasheet; ComponentLink2URL: http://www-s.ti.com/sc/ds/ads1210.pdf
footprint 218D (DIP; 18 Leads; Row Spacing 7.62 mm; Pitch 2.54 mm)
3D model DIP18 (DIP; 18 Leads; Row Spacing 7.62 mm; Pitch 2.54 mm)
pins: 1 IN+ (in), 2 IN- (in), 3 AGND (power), 4 VB (out), 5 ~{CS} (in), 6 ~{DSYNC} (in), 7 SYSCLK IN (in), 8 SYSCLK O (out), 9 DGND (power), 10 VD+ (power), 11 SCLK (io), 12 SDIO (io), 13 SDO (hiz), 14 ~{DRDY} (in), 15 MD (in), 16 V+ (power), 17 REF O (out), 18 REF IN (in)

## ADS1210U
designator U?
24-Bit Analog-to-Digital Converter; Published: 8-Jun-2000; LatestRevisionDate: 13-Apr-2006; LatestRevisionNote: IPC-7351 Footprint Added.; DatasheetVersion: Apr-1997; PackageReference: 219E; Publisher: Altium Limited; PackageDescription: 18-Pin Small Outline Integrated Circuit 1.27 mm Pitch; Code_JEDEC: MS-013-AB; ComponentLink1Description: Manufacturer Link; ComponentLink1URL: http://www.ti.com/; ComponentLink2Description: Datasheet; ComponentLink2URL: http://www-s.ti.com/sc/ds/ads1210.pdf
footprint 219E_N (SOIC, 18-Leads, Body 11.6x7.5mm, Pitch 1.27mm, IPC Medium Density)
footprint 219E_L (SOIC, 18-Leads, Body 11.6x7.5mm, Pitch 1.27mm, IPC High Density)
footprint 219E_M (SOIC, 18-Leads, Body 11.6x7.5mm, Pitch 1.27mm, IPC Low Density)
3D model 219E (18-Pin Small Outline Integrated Circuit 1.27 mm Pitch)
pins: 1 IN+ (in), 2 IN- (in), 3 AGND (power), 4 VB (out), 5 ~{CS} (in), 6 ~{DSYNC} (in), 7 SYSCLK IN (in), 8 SYSCLK O (out), 9 DGND (power), 10 VD+ (power), 11 SCLK (io), 12 SDIO (io), 13 SDO (hiz), 14 ~{DRDY} (in), 15 MD (in), 16 V+ (power), 17 REF O (out), 18 REF IN (in)

## ADS1211E
designator U?
24-Bit Analog-to-Digital Converter; Note: Pins 8, 9, 20 and 21 have no internal connection; Published: 8-Jun-2000; LatestRevisionDate: 06-Jun-2005; LatestRevisionNote: Stylized 3D Model Added.; DatasheetVersion: Apr-1997; PackageReference: 324C; Publisher: Altium Limited; PackageDescription: SSOP, Plastic; 28 Leads; Body Width 5.3 mm; Pitch 0.65 mm; Code_JEDEC: MO-150-AH; ComponentLink1Description: Manufacturer Link; ComponentLink1URL: http://www.ti.com/; ComponentLink2Description: Datasheet; ComponentLink2URL: http://www-s.ti.com/sc/ds/ads1211.pdf
footprint 324C (SSOP, Plastic; 28 Leads; Body Width 5.3 mm; Pitch 0.65 mm)
3D model SSOP28 (SSOP, Plastic; 28 Leads; Body Width 5.3 mm; Pitch 0.65 mm)
pins: 1 IN3- (in), 2 IN2+ (in), 3 IN2- (in), 4 IN1+ (in), 5 IN1- (in), 6 AGND (power), 7 VB (out), 10 ~{CS} (in), 11 ~{DSYNC} (in), 12 SYSCLK IN (in), 13 SYSCLK OUT (out), 14 DGND (power), 15 DVDD (power), 16 SCLK (io), 17 SDIO (io), 18 SDOUT (hiz), 19 ~{DRDY} (in), 22 MD (in), 23 AVDD (power), 24 REF OUT (out), 25 REF IN (in), 26 IN4+ (in), 27 IN4- (in), 28 IN3+ (in)

## ADS1211P
designator U?
24-Bit Analog-to-Digital Converter; Published: 8-Jun-2000; LatestRevisionDate: 06-Jun-2005; LatestRevisionNote: Stylized 3D Model Added.; DatasheetVersion: Apr-1997; PackageVersion: revD; PackageReference: 243D; Publisher: Altium Limited; PackageDescription: DIP; 24 Leads; Row Spacing 7.62 mm; Pitch 2.54 mm; Code_JEDEC: MS-001-AF; ComponentLink1Description: Manufacturer Link; ComponentLink1URL: http://www.ti.com/; ComponentLink2Description: Datasheet; ComponentLink2URL: http://www-s.ti.com/sc/ds/ads1211.pdf
footprint 243D (DIP; 24 Leads; Row Spacing 7.62 mm; Pitch 2.54 mm)
3D model 243 (DIP; 24 Leads; Row Spacing 7.62 mm; Pitch 2.54 mm)
pins: 1 IN3- (in), 2 IN2+ (in), 3 IN2- (in), 4 IN1+ (in), 5 IN1- (in), 6 AGND (power), 7 VB (out), 8 ~{CS} (in), 9 ~{DSYNC} (in), 10 SYSCLK IN (in), 11 SYSCLK O (out), 12 DGND (power), 13 VD+ (power), 14 SCLK (io), 15 SDI (io), 16 SDO (hiz), 17 ~{DRDY} (in), 18 MD (in), 19 V+ (power), 20 REF O (out), 21 REF IN (in), 22 IN4+ (in), 23 IN4- (in), 24 IN3+ (in)

## ADS1211U
designator U?
24-Bit Analog-to-Digital Converter; Published: 8-Jun-2000; LatestRevisionDate: 13-Apr-2006; LatestRevisionNote: IPC-7351 Footprint Added.; DatasheetVersion: Apr-1997; PackageReference: 239E; Publisher: Altium Limited; PackageDescription: 24-Pin Small Outline Integrated Circuit 1.27 mm Pitch; ComponentLink1Description: Manufacturer Link; ComponentLink1URL: http://www.ti.com/; ComponentLink2Description: Datasheet; ComponentLink2URL: http://www-s.ti.com/sc/ds/ads1211.pdf
footprint 239E_N (SOIC, 24-Leads, Body 15.4x7.5mm, Pitch 1.27mm, IPC Medium Density)
footprint 239E_L (SOIC, 24-Leads, Body 15.4x7.5mm, Pitch 1.27mm, IPC High Density)
footprint 239E_M (SOIC, 24-Leads, Body 15.4x7.5mm, Pitch 1.27mm, IPC Low Density)
3D model 239 (24-Pin Small Outline Integrated Circuit 1.27 mm Pitch)
pins: 1 IN3- (in), 2 IN2+ (in), 3 IN2- (in), 4 IN1+ (in), 5 IN1- (in), 6 AGND (power), 7 VB (out), 8 ~{CS} (in), 9 ~{DSYNC} (in), 10 SYSCLK IN (in), 11 SYSCLK O (out), 12 DGND (power), 13 VD+ (power), 14 SCLK (io), 15 SDI (io), 16 SDO (hiz), 17 ~{DRDY} (in), 18 MD (in), 19 V+ (power), 20 REF O (out), 21 REF IN (in), 22 IN4+ (in), 23 IN4- (in), 24 IN3+ (in)

## ADS1212P
designator U?
22-Bit Analog-to-Digital Converter; Published: 8-Jun-2000; LatestRevisionDate: 06-Jun-2005; LatestRevisionNote: Stylized 3D Model Added.; DatasheetVersion: Apr-1998; PackageVersion: revD; PackageReference: 218D; Publisher: Altium Limited; PackageDescription: DIP; 18 Leads; Row Spacing 7.62 mm; Pitch 2.54 mm; ComponentLink1Description: Manufacturer Link; ComponentLink1URL: http://www.ti.com/; ComponentLink2Description: Datasheet; ComponentLink2URL: http://www-s.ti.com/sc/ds/ads1212.pdf
footprint 218D (DIP; 18 Leads; Row Spacing 7.62 mm; Pitch 2.54 mm)
3D model DIP18 (DIP; 18 Leads; Row Spacing 7.62 mm; Pitch 2.54 mm)
pins: 1 IN+ (in), 2 IN- (in), 3 AGND (power), 4 VB (out), 5 ~{CS} (in), 6 ~{DSYNC} (in), 7 SYSCLK IN (in), 8 SYSCLK O (out), 9 DGND (power), 10 VD+ (power), 11 SCLK (io), 12 SDI (io), 13 SDO (hiz), 14 ~{DRDY} (in), 15 MD (in), 16 V+ (power), 17 REF O (out), 18 REF IN (in)

## ADS1212U
designator U?
22-Bit Analog-to-Digital Converter; Published: 8-Jun-2000; LatestRevisionDate: 13-Apr-2006; LatestRevisionNote: IPC-7351 Footprint Added.; DatasheetVersion: Apr-1998; PackageReference: 219E; Publisher: Altium Limited; PackageDescription: 18-Pin Small Outline Integrated Circuit 1.27 mm Pitch; Code_JEDEC: MS-013-AB; ComponentLink1Description: Manufacturer Link; ComponentLink1URL: http://www.ti.com/; ComponentLink2Description: Datasheet; ComponentLink2URL: http://www-s.ti.com/sc/ds/ads1212.pdf
footprint 219E_N (SOIC, 18-Leads, Body 11.6x7.5mm, Pitch 1.27mm, IPC Medium Density)
footprint 219E_L (SOIC, 18-Leads, Body 11.6x7.5mm, Pitch 1.27mm, IPC High Density)
footprint 219E_M (SOIC, 18-Leads, Body 11.6x7.5mm, Pitch 1.27mm, IPC Low Density)
3D model 219E (18-Pin Small Outline Integrated Circuit 1.27 mm Pitch)
pins: 1 IN+ (in), 2 IN- (in), 3 AGND (power), 4 VB (out), 5 ~{CS} (in), 6 ~{DSYNC} (in), 7 SYSCLK IN (in), 8 SYSCLK O (out), 9 DGND (power), 10 VD+ (power), 11 SCLK (io), 12 SDI (io), 13 SDO (hiz), 14 ~{DRDY} (in), 15 MD (in), 16 V+ (power), 17 REF O (out), 18 REF IN (in)

## ADS1213E
designator U?
22-Bit Analog-to-Digital Converter; Note: Pins 8, 9, 20 and 21 have no internal connection; Published: 8-Jun-2000; LatestRevisionDate: 06-Jun-2005; LatestRevisionNote: Stylized 3D Model Added.; DatasheetVersion: Apr-1998; PackageReference: 324C; Publisher: Altium Limited; PackageDescription: SSOP, Plastic; 28 Leads; Body Width 5.3 mm; Pitch 0.65 mm; Code_JEDEC: MO-150-AH; ComponentLink1Description: Manufacturer Link; ComponentLink1URL: http://www.ti.com/; ComponentLink2Description: Datasheet; ComponentLink2URL: http://www-s.ti.com/sc/ds/ads1212.pdf
footprint 324C (SSOP, Plastic; 28 Leads; Body Width 5.3 mm; Pitch 0.65 mm)
3D model SSOP28 (SSOP, Plastic; 28 Leads; Body Width 5.3 mm; Pitch 0.65 mm)
pins: 1 IN3- (in), 2 IN2+ (in), 3 IN2- (in), 4 IN1+ (in), 5 IN1- (in), 6 AGND (power), 7 VB (out), 10 ~{CS} (in), 11 ~{DSYNC} (in), 12 SYSCLK IN (in), 13 SYSCLK OUT (out), 14 DGND (power), 15 DVDD (power), 16 SCLK (io), 17 SDIO (io), 18 SDOUT (hiz), 19 ~{DRDY} (in), 22 MD (in), 23 AVDD (power), 24 REF OUT (out), 25 REF IN (in), 26 IN4+ (in), 27 IN4- (in), 28 IN3+ (in)

## ADS1213P
designator U?
22-Bit Analog-to-Digital Converter; Published: 8-Jun-2000; LatestRevisionDate: 06-Jun-2005; LatestRevisionNote: Stylized 3D Model Added.; DatasheetVersion: Apr-1998; PackageVersion: revD; PackageReference: 243D; Publisher: Altium Limited; PackageDescription: DIP; 24 Leads; Row Spacing 7.62 mm; Pitch 2.54 mm; Code_JEDEC: MS-001-AF; ComponentLink1Description: Manufacturer Link; ComponentLink1URL: http://www.ti.com/; ComponentLink2Description: Datasheet; ComponentLink2URL: http://www-s.ti.com/sc/ds/ads1212.pdf
footprint 243D (DIP; 24 Leads; Row Spacing 7.62 mm; Pitch 2.54 mm)
3D model 243 (DIP; 24 Leads; Row Spacing 7.62 mm; Pitch 2.54 mm)
pins: 1 IN3- (in), 2 IN2+ (in), 3 IN2- (in), 4 IN1+ (in), 5 IN1- (in), 6 AGND (power), 7 VB (out), 8 ~{CS} (in), 9 ~{DSYNC} (in), 10 SYSCLK IN (in), 11 SYSCLK O (out), 12 DGND (power), 13 VD+ (power), 14 SCLK (io), 15 SDI (io), 16 SDO (hiz), 17 ~{DRDY} (in), 18 MD (in), 19 V+ (power), 20 REF O (out), 21 REF IN (in), 22 IN4+ (in), 23 IN4- (in), 24 IN3+ (in)

## ADS1213U
designator U?
22-Bit Analog-to-Digital Converter; Published: 8-Jun-2000; LatestRevisionDate: 13-Apr-2006; LatestRevisionNote: IPC-7351 Footprint Added.; DatasheetVersion: Apr-1998; PackageReference: 239E; Publisher: Altium Limited; PackageDescription: 24-Pin Small Outline Integrated Circuit 1.27 mm Pitch; ComponentLink1Description: Manufacturer Link; ComponentLink1URL: http://www.ti.com/; ComponentLink2Description: Datasheet; ComponentLink2URL: http://www-s.ti.com/sc/ds/ads1212.pdf
footprint 239E_N (SOIC, 24-Leads, Body 15.4x7.5mm, Pitch 1.27mm, IPC Medium Density)
footprint 239E_L (SOIC, 24-Leads, Body 15.4x7.5mm, Pitch 1.27mm, IPC High Density)
footprint 239E_M (SOIC, 24-Leads, Body 15.4x7.5mm, Pitch 1.27mm, IPC Low Density)
3D model 239 (24-Pin Small Outline Integrated Circuit 1.27 mm Pitch)
pins: 1 IN3- (in), 2 IN2+ (in), 3 IN2- (in), 4 IN1+ (in), 5 IN1- (in), 6 AGND (power), 7 VB (out), 8 ~{CS} (in), 9 ~{DSYNC} (in), 10 SYSCLK IN (in), 11 SYSCLK O (out), 12 DGND (power), 13 VD+ (power), 14 SCLK (io), 15 SDI (io), 16 SDO (hiz), 17 ~{DRDY} (in), 18 MD (in), 19 V+ (power), 20 REF O (out), 21 REF IN (in), 22 IN4+ (in), 23 IN4- (in), 24 IN3+ (in)

## ADS1286P
designator U?
12-Bit Micro Power Sampling Analog-to-Digital Converter; Published: 8-Jun-2000; LatestRevisionDate: 06-Jun-2005; LatestRevisionNote: Stylized 3D Model Added.; DatasheetVersion: Oct-1998; PackageVersion: revE; PackageReference: 006E; Publisher: Altium Limited; PackageDescription: DIP; 8 Leads; Row Spacing 7.62 mm; Pitch 2.54 mm; ComponentLink1Description: Manufacturer Link; ComponentLink1URL: http://www.ti.com/; ComponentLink2Description: Datasheet; ComponentLink2URL: http://www-s.ti.com/sc/ds/ads1286.pdf
footprint 006E (DIP; 8 Leads; Row Spacing 7.62 mm; Pitch 2.54 mm)
3D model DIP8 (DIP; 8 Leads; Row Spacing 7.62 mm; Pitch 2.54 mm)
pins: 1 VREF (in), 2 IN+ (in), 3 IN- (in), 4 GND (power), 5 ~{CS}/SD (in), 6 OUT (hiz), 7 DCLK (in), 8 V+ (power)

## ADS1286PA
designator U?
12-Bit Micro Power Sampling Analog-to-Digital Converter; Published: 8-Jun-2000; LatestRevisionDate: 06-Jun-2005; LatestRevisionNote: Stylized 3D Model Added.; DatasheetVersion: Oct-1998; PackageVersion: revE; PackageReference: 006E; Publisher: Altium Limited; PackageDescription: DIP; 8 Leads; Row Spacing 7.62 mm; Pitch 2.54 mm; ComponentLink1Description: Manufacturer Link; ComponentLink1URL: http://www.ti.com/; ComponentLink2Description: Datasheet; ComponentLink2URL: http://www-s.ti.com/sc/ds/ads1286.pdf
footprint 006E (DIP; 8 Leads; Row Spacing 7.62 mm; Pitch 2.54 mm)
3D model DIP8 (DIP; 8 Leads; Row Spacing 7.62 mm; Pitch 2.54 mm)
pins: 1 VREF (in), 2 IN+ (in), 3 IN- (in), 4 GND (power), 5 ~{CS}/SD (in), 6 OUT (hiz), 7 DCLK (in), 8 V+ (power)

## ADS1286PB
designator U?
12-Bit Micro Power Sampling Analog-to-Digital Converter; Published: 8-Jun-2000; LatestRevisionDate: 06-Jun-2005; LatestRevisionNote: Stylized 3D Model Added.; DatasheetVersion: Oct-1998; PackageVersion: revE; PackageReference: 006E; Publisher: Altium Limited; PackageDescription: DIP; 8 Leads; Row Spacing 7.62 mm; Pitch 2.54 mm; ComponentLink1Description: Manufacturer Link; ComponentLink1URL: http://www.ti.com/; ComponentLink2Description: Datasheet; ComponentLink2URL: http://www-s.ti.com/sc/ds/ads1286.pdf
footprint 006E (DIP; 8 Leads; Row Spacing 7.62 mm; Pitch 2.54 mm)
3D model DIP8 (DIP; 8 Leads; Row Spacing 7.62 mm; Pitch 2.54 mm)
pins: 1 VREF (in), 2 IN+ (in), 3 IN- (in), 4 GND (power), 5 ~{CS}/SD (in), 6 OUT (hiz), 7 DCLK (in), 8 V+ (power)

## ADS1286PC
designator U?
12-Bit Micro Power Sampling Analog-to-Digital Converter; Published: 8-Jun-2000; LatestRevisionDate: 06-Jun-2005; LatestRevisionNote: Stylized 3D Model Added.; DatasheetVersion: Oct-1998; PackageVersion: revE; PackageReference: 006E; Publisher: Altium Limited; PackageDescription: DIP; 8 Leads; Row Spacing 7.62 mm; Pitch 2.54 mm; ComponentLink1Description: Manufacturer Link; ComponentLink1URL: http://www.ti.com/; ComponentLink2Description: Datasheet; ComponentLink2URL: http://www-s.ti.com/sc/ds/ads1286.pdf
footprint 006E (DIP; 8 Leads; Row Spacing 7.62 mm; Pitch 2.54 mm)
3D model DIP8 (DIP; 8 Leads; Row Spacing 7.62 mm; Pitch 2.54 mm)
pins: 1 VREF (in), 2 IN+ (in), 3 IN- (in), 4 GND (power), 5 ~{CS}/SD (in), 6 OUT (hiz), 7 DCLK (in), 8 V+ (power)

## ADS1286PK
designator U?
12-Bit Micro Power Sampling Analog-to-Digital Converter; Published: 8-Jun-2000; LatestRevisionDate: 06-Jun-2005; LatestRevisionNote: Stylized 3D Model Added.; DatasheetVersion: Oct-1998; PackageVersion: revE; PackageReference: 006E; Publisher: Altium Limited; PackageDescription: DIP; 8 Leads; Row Spacing 7.62 mm; Pitch 2.54 mm; ComponentLink1Description: Manufacturer Link; ComponentLink1URL: http://www.ti.com/; ComponentLink2Description: Datasheet; ComponentLink2URL: http://www-s.ti.com/sc/ds/ads1286.pdf
footprint 006E (DIP; 8 Leads; Row Spacing 7.62 mm; Pitch 2.54 mm)
3D model DIP8 (DIP; 8 Leads; Row Spacing 7.62 mm; Pitch 2.54 mm)
pins: 1 VREF (in), 2 IN+ (in), 3 IN- (in), 4 GND (power), 5 ~{CS}/SD (in), 6 OUT (hiz), 7 DCLK (in), 8 V+ (power)

## ADS1286PL
designator U?
12-Bit Micro Power Sampling Analog-to-Digital Converter; Published: 8-Jun-2000; LatestRevisionDate: 06-Jun-2005; LatestRevisionNote: Stylized 3D Model Added.; DatasheetVersion: Oct-1998; PackageVersion: revE; PackageReference: 006E; Publisher: Altium Limited; PackageDescription: DIP; 8 Leads; Row Spacing 7.62 mm; Pitch 2.54 mm; ComponentLink1Description: Manufacturer Link; ComponentLink1URL: http://www.ti.com/; ComponentLink2Description: Datasheet; ComponentLink2URL: http://www-s.ti.com/sc/ds/ads1286.pdf
footprint 006E (DIP; 8 Leads; Row Spacing 7.62 mm; Pitch 2.54 mm)
3D model DIP8 (DIP; 8 Leads; Row Spacing 7.62 mm; Pitch 2.54 mm)
pins: 1 VREF (in), 2 IN+ (in), 3 IN- (in), 4 GND (power), 5 ~{CS}/SD (in), 6 OUT (hiz), 7 DCLK (in), 8 V+ (power)

## ADS1286U
designator U?
12-Bit Micro Power Sampling Analog-to-Digital Converter; Published: 8-Jun-2000; LatestRevisionDate: 13-Apr-2006; LatestRevisionNote: IPC-7351 Footprint Added.; DatasheetVersion: Oct-1998; PackageReference: 182H; Publisher: Altium Limited; PackageDescription: 8-Pin Small Outline Integrated Circuit 1.27 mm Pitch; Code_JEDEC: MS-012-AA; Code_IPC: SOIC127P600-8; ComponentLink1Description: Manufacturer Link; ComponentLink1URL: http://www.ti.com/; ComponentLink2Description: Datasheet; ComponentLink2URL: http://www-s.ti.com/sc/ds/ads1286.pdf
footprint 182H_N (SOIC, 8-Leads, Body 4.9x3.9mm, Pitch 1.27mm, IPC Medium Density)
footprint 182H_L (SOIC, 8-Leads, Body 4.9x3.9mm, Pitch 1.27mm, IPC High Density)
footprint 182H_M (SOIC, 8-Leads, Body 4.9x3.9mm, Pitch 1.27mm, IPC Low Density)
3D model SOIC8 (8-Pin Small Outline Integrated Circuit 1.27 mm Pitch)
pins: 1 VREF (in), 2 IN+ (in), 3 IN- (in), 4 GND (power), 5 ~{CS}/SD (in), 6 OUT (hiz), 7 DCLK (in), 8 V+ (power)

## ADS1286UA
designator U?
12-Bit Micro Power Sampling Analog-to-Digital Converter; Published: 8-Jun-2000; LatestRevisionDate: 13-Apr-2006; LatestRevisionNote: IPC-7351 Footprint Added.; DatasheetVersion: Oct-1998; PackageReference: 182H; Publisher: Altium Limited; PackageDescription: 8-Pin Small Outline Integrated Circuit 1.27 mm Pitch; Code_JEDEC: MS-012-AA; Code_IPC: SOIC127P600-8; ComponentLink1Description: Manufacturer Link; ComponentLink1URL: http://www.ti.com/; ComponentLink2Description: Datasheet; ComponentLink2URL: http://www-s.ti.com/sc/ds/ads1286.pdf
footprint 182H_N (SOIC, 8-Leads, Body 4.9x3.9mm, Pitch 1.27mm, IPC Medium Density)
footprint 182H_L (SOIC, 8-Leads, Body 4.9x3.9mm, Pitch 1.27mm, IPC High Density)
footprint 182H_M (SOIC, 8-Leads, Body 4.9x3.9mm, Pitch 1.27mm, IPC Low Density)
3D model SOIC8 (8-Pin Small Outline Integrated Circuit 1.27 mm Pitch)
pins: 1 VREF (in), 2 IN+ (in), 3 IN- (in), 4 GND (power), 5 ~{CS}/SD (in), 6 OUT (hiz), 7 DCLK (in), 8 V+ (power)

## ADS1286UB
designator U?
12-Bit Micro Power Sampling Analog-to-Digital Converter; Published: 8-Jun-2000; LatestRevisionDate: 13-Apr-2006; LatestRevisionNote: IPC-7351 Footprint Added.; DatasheetVersion: Oct-1998; PackageReference: 182H; Publisher: Altium Limited; PackageDescription: 8-Pin Small Outline Integrated Circuit 1.27 mm Pitch; Code_JEDEC: MS-012-AA; Code_IPC: SOIC127P600-8; ComponentLink1Description: Manufacturer Link; ComponentLink1URL: http://www.ti.com/; ComponentLink2Description: Datasheet; ComponentLink2URL: http://www-s.ti.com/sc/ds/ads1286.pdf
footprint 182H_N (SOIC, 8-Leads, Body 4.9x3.9mm, Pitch 1.27mm, IPC Medium Density)
footprint 182H_L (SOIC, 8-Leads, Body 4.9x3.9mm, Pitch 1.27mm, IPC High Density)
footprint 182H_M (SOIC, 8-Leads, Body 4.9x3.9mm, Pitch 1.27mm, IPC Low Density)
3D model SOIC8 (8-Pin Small Outline Integrated Circuit 1.27 mm Pitch)
pins: 1 VREF (in), 2 IN+ (in), 3 IN- (in), 4 GND (power), 5 ~{CS}/SD (in), 6 OUT (hiz), 7 DCLK (in), 8 V+ (power)

## ADS1286UC
designator U?
12-Bit Micro Power Sampling Analog-to-Digital Converter; Published: 8-Jun-2000; LatestRevisionDate: 13-Apr-2006; LatestRevisionNote: IPC-7351 Footprint Added.; DatasheetVersion: Oct-1998; PackageReference: 182H; Publisher: Altium Limited; PackageDescription: 8-Pin Small Outline Integrated Circuit 1.27 mm Pitch; Code_JEDEC: MS-012-AA; Code_IPC: SOIC127P600-8; ComponentLink1Description: Manufacturer Link; ComponentLink1URL: http://www.ti.com/; ComponentLink2Description: Datasheet; ComponentLink2URL: http://www-s.ti.com/sc/ds/ads1286.pdf
footprint 182H_N (SOIC, 8-Leads, Body 4.9x3.9mm, Pitch 1.27mm, IPC Medium Density)
footprint 182H_L (SOIC, 8-Leads, Body 4.9x3.9mm, Pitch 1.27mm, IPC High Density)
footprint 182H_M (SOIC, 8-Leads, Body 4.9x3.9mm, Pitch 1.27mm, IPC Low Density)
3D model SOIC8 (8-Pin Small Outline Integrated Circuit 1.27 mm Pitch)
pins: 1 VREF (in), 2 IN+ (in), 3 IN- (in), 4 GND (power), 5 ~{CS}/SD (in), 6 OUT (hiz), 7 DCLK (in), 8 V+ (power)

## ADS1286UK
designator U?
12-Bit Micro Power Sampling Analog-to-Digital Converter; Published: 8-Jun-2000; LatestRevisionDate: 13-Apr-2006; LatestRevisionNote: IPC-7351 Footprint Added.; DatasheetVersion: Oct-1998; PackageReference: 182H; Publisher: Altium Limited; PackageDescription: 8-Pin Small Outline Integrated Circuit 1.27 mm Pitch; Code_JEDEC: MS-012-AA; Code_IPC: SOIC127P600-8; ComponentLink1Description: Manufacturer Link; ComponentLink1URL: http://www.ti.com/; ComponentLink2Description: Datasheet; ComponentLink2URL: http://www-s.ti.com/sc/ds/ads1286.pdf
footprint 182H_N (SOIC, 8-Leads, Body 4.9x3.9mm, Pitch 1.27mm, IPC Medium Density)
footprint 182H_L (SOIC, 8-Leads, Body 4.9x3.9mm, Pitch 1.27mm, IPC High Density)
footprint 182H_M (SOIC, 8-Leads, Body 4.9x3.9mm, Pitch 1.27mm, IPC Low Density)
3D model SOIC8 (8-Pin Small Outline Integrated Circuit 1.27 mm Pitch)
pins: 1 VREF (in), 2 IN+ (in), 3 IN- (in), 4 GND (power), 5 ~{CS}/SD (in), 6 OUT (hiz), 7 DCLK (in), 8 V+ (power)